# EAGLE library part ATSAM4E8E (library Arduino-DUE-V03)
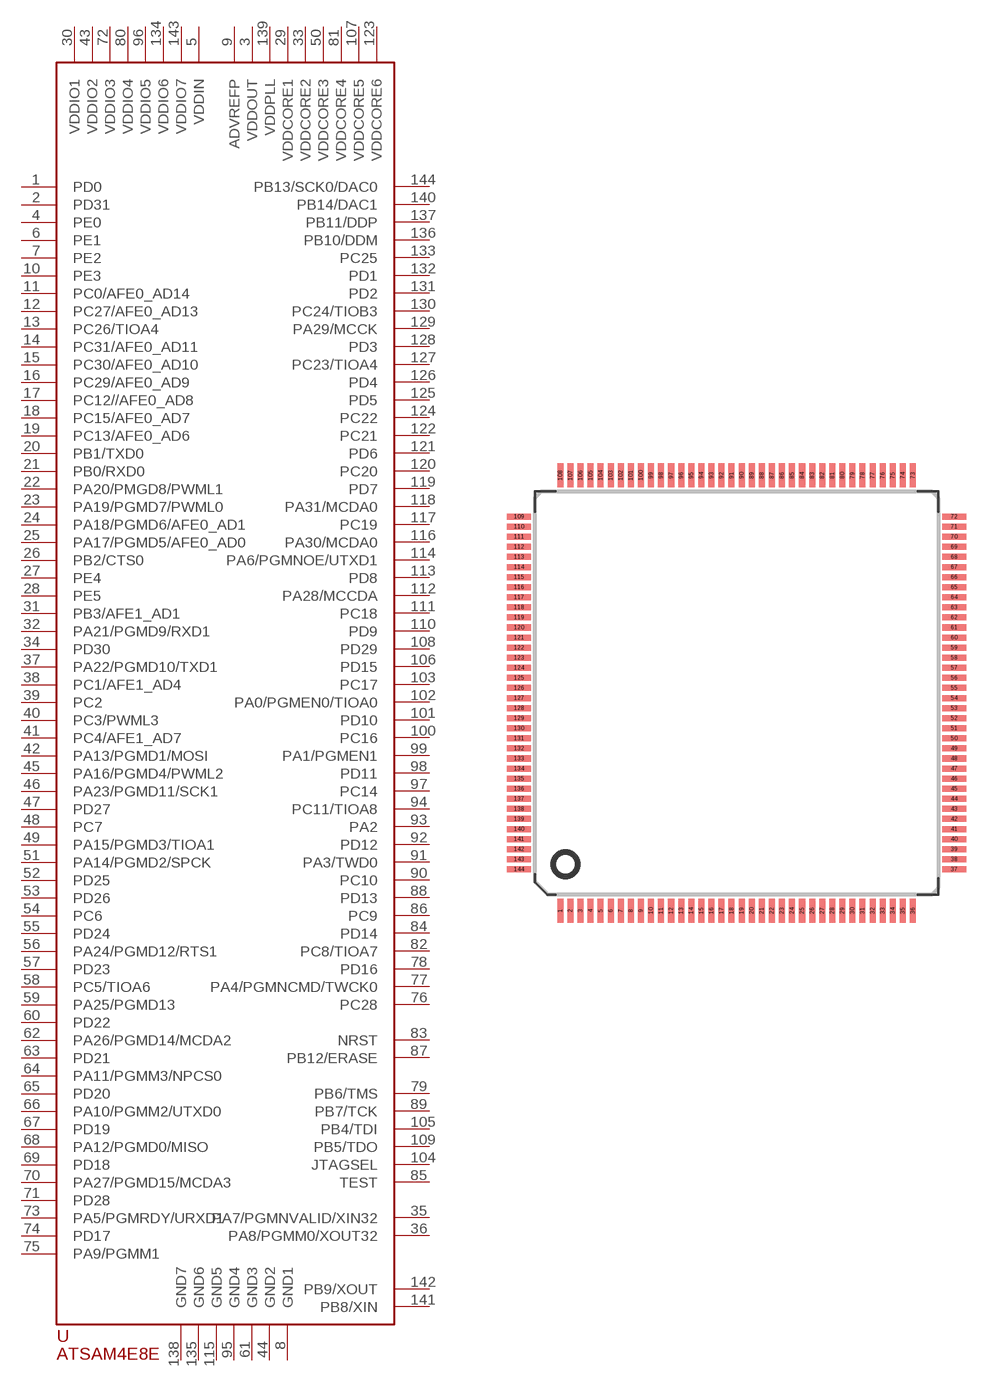
[diagram p10: symbol with the pads of LQFP144; footprint LQFP144]

Designator prefix -

## ATSAM4E8E  [LQFP144]
1  PD0
2  PD31
3  VDDOUT  out
4  PE0
5  VDDIN  pwr
6  PE1
7  PE2
8  GND1  pwr
9  ADVREFP  pwr
10  PE3
11  PC0/AFE0_AD14
12  PC27/AFE0_AD13
13  PC26/TIOA4
14  PC31/AFE0_AD11
15  PC30/AFE0_AD10
16  PC29/AFE0_AD9
17  PC12//AFE0_AD8
18  PC15/AFE0_AD7
19  PC13/AFE0_AD6
20  PB1/TXD0
21  PB0/RXD0
22  PA20/PMGD8/PWML1
23  PA19/PGMD7/PWML0
24  PA18/PGMD6/AFE0_AD1
25  PA17/PGMD5/AFE0_AD0
26  PB2/CTS0
27  PE4
28  PE5
29  VDDCORE1  in
30  VDDIO1  pwr
31  PB3/AFE1_AD1
32  PA21/PGMD9/RXD1
33  VDDCORE2  in
34  PD30
35  PA7/PGMNVALID/XIN32
36  PA8/PGMM0/XOUT32
37  PA22/PGMD10/TXD1
38  PC1/AFE1_AD4
39  PC2
40  PC3/PWML3
41  PC4/AFE1_AD7
42  PA13/PGMD1/MOSI
43  VDDIO2  pwr
44  GND2  pwr
45  PA16/PGMD4/PWML2
46  PA23/PGMD11/SCK1
47  PD27
48  PC7
49  PA15/PGMD3/TIOA1
50  VDDCORE3  in
51  PA14/PGMD2/SPCK
52  PD25
53  PD26
54  PC6
55  PD24
56  PA24/PGMD12/RTS1
57  PD23
58  PC5/TIOA6
59  PA25/PGMD13
60  PD22
61  GND3  pwr
62  PA26/PGMD14/MCDA2
63  PD21
64  PA11/PGMM3/NPCS0
65  PD20
66  PA10/PGMM2/UTXD0
67  PD19
68  PA12/PGMD0/MISO
69  PD18
70  PA27/PGMD15/MCDA3
71  PD28
72  VDDIO3  pwr
73  PA5/PGMRDY/URXD1
74  PD17
75  PA9/PGMM1
76  PC28
77  PA4/PGMNCMD/TWCK0
78  PD16
79  PB6/TMS
80  VDDIO4  pwr
81  VDDCORE4  in
82  PC8/TIOA7
83  NRST
84  PD14
85  TEST  in
86  PC9
87  PB12/ERASE
88  PD13
89  PB7/TCK
90  PC10
91  PA3/TWD0
92  PD12
93  PA2
94  PC11/TIOA8
95  GND4  pwr
96  VDDIO5  pwr
97  PC14
98  PD11
99  PA1/PGMEN1
100  PC16
101  PD10
102  PA0/PGMEN0/TIOA0
103  PC17
104  JTAGSEL  in
105  PB4/TDI
106  PD15
107  VDDCORE5  in
108  PD29
109  PB5/TDO
110  PD9
111  PC18
112  PA28/MCCDA
113  PD8
114  PA6/PGMNOE/UTXD1
115  GND5  pwr
116  PA30/MCDA0
117  PC19
118  PA31/MCDA0
119  PD7
120  PC20
121  PD6
122  PC21
123  VDDCORE6  in
124  PC22
125  PD5
126  PD4
127  PC23/TIOA4
128  PD3
129  PA29/MCCK
130  PC24/TIOB3
131  PD2
132  PD1
133  PC25
134  VDDIO6  pwr
135  GND6  pwr
136  PB10/DDM
137  PB11/DDP
138  GND7  pwr
139  VDDPLL  in
140  PB14/DAC1
141  PB8/XIN
142  PB9/XOUT
143  VDDIO7  pwr
144  PB13/SCK0/DAC0

## Footprint LQFP144 (pad centres in mm)
QFP144 shrink quad flat pack, square (smd-ipc)
smd 0.3 x 1.2: 1 -8.75,-10.8; 2 -8.25,-10.8; 3 -7.75,-10.8; 4 -7.25,-10.8; 5 -6.75,-10.8; 6 -6.25,-10.8; 7 -5.75,-10.8; 8 -5.25,-10.8; 9 -4.75,-10.8; 10 -4.25,-10.8; 11 -3.75,-10.8; 12 -3.25,-10.8; 13 -2.75,-10.8; 14 -2.25,-10.8; 15 -1.75,-10.8; 16 -1.25,-10.8; 17 -0.75,-10.8; 18 -0.25,-10.8; 19 0.25,-10.8; 20 0.75,-10.8; 21 1.25,-10.8; 22 1.75,-10.8; 23 2.25,-10.8; 24 2.75,-10.8; 25 3.25,-10.8; 26 3.75,-10.8; 27 4.25,-10.8; 28 4.75,-10.8; 29 5.25,-10.8; 30 5.75,-10.8; 31 6.25,-10.8; 32 6.75,-10.8; 33 7.25,-10.8; 34 7.75,-10.8; 35 8.25,-10.8; 36 8.75,-10.8; 73 8.75,10.8; 74 8.25,10.8; 75 7.75,10.8; 76 7.25,10.8; 77 6.75,10.8; 78 6.25,10.8; 79 5.75,10.8; 80 5.25,10.8; 81 4.75,10.8; 82 4.25,10.8; 83 3.75,10.8; 84 3.25,10.8; 85 2.75,10.8; 86 2.25,10.8; 87 1.75,10.8; 88 1.25,10.8; 89 0.75,10.8; 90 0.25,10.8; 91 -0.25,10.8; 92 -0.75,10.8; 93 -1.25,10.8; 94 -1.75,10.8; 95 -2.25,10.8; 96 -2.75,10.8; 97 -3.25,10.8; 98 -3.75,10.8; 99 -4.25,10.8; 100 -4.75,10.8; 101 -5.25,10.8; 102 -5.75,10.8; 103 -6.25,10.8; 104 -6.75,10.8; 105 -7.25,10.8; 106 -7.75,10.8; 107 -8.25,10.8; 108 -8.75,10.8
smd 1.2 x 0.3: 37 10.8,-8.75; 38 10.8,-8.25; 39 10.8,-7.75; 40 10.8,-7.25; 41 10.8,-6.75; 42 10.8,-6.25; 43 10.8,-5.75; 44 10.8,-5.25; 45 10.8,-4.75; 46 10.8,-4.25; 47 10.8,-3.75; 48 10.8,-3.25; 49 10.8,-2.75; 50 10.8,-2.25; 51 10.8,-1.75; 52 10.8,-1.25; 53 10.8,-0.75; 54 10.8,-0.25; 55 10.8,0.25; 56 10.8,0.75; 57 10.8,1.25; 58 10.8,1.75; 59 10.8,2.25; 60 10.8,2.75; 61 10.8,3.25; 62 10.8,3.75; 63 10.8,4.25; 64 10.8,4.75; 65 10.8,5.25; 66 10.8,5.75; 67 10.8,6.25; 68 10.8,6.75; 69 10.8,7.25; 70 10.8,7.75; 71 10.8,8.25; 72 10.8,8.75; 109 -10.8,8.75; 110 -10.8,8.25; 111 -10.8,7.75; 112 -10.8,7.25; 113 -10.8,6.75; 114 -10.8,6.25; 115 -10.8,5.75; 116 -10.8,5.25; 117 -10.8,4.75; 118 -10.8,4.25; 119 -10.8,3.75; 120 -10.8,3.25; 121 -10.8,2.75; 122 -10.8,2.25; 123 -10.8,1.75; 124 -10.8,1.25; 125 -10.8,0.75; 126 -10.8,0.25; 127 -10.8,-0.25; 128 -10.8,-0.75; 129 -10.8,-1.25; 130 -10.8,-1.75; 131 -10.8,-2.25; 132 -10.8,-2.75; 133 -10.8,-3.25; 134 -10.8,-3.75; 135 -10.8,-4.25; 136 -10.8,-4.75; 137 -10.8,-5.25; 138 -10.8,-5.75; 139 -10.8,-6.25; 140 -10.8,-6.75; 141 -10.8,-7.25; 142 -10.8,-7.75; 143 -10.8,-8.25; 144 -10.8,-8.75